# EAGLE library part MC34063ADG (library ON_Semiconductor_By_element14_Batch_1)
Switching Regulators
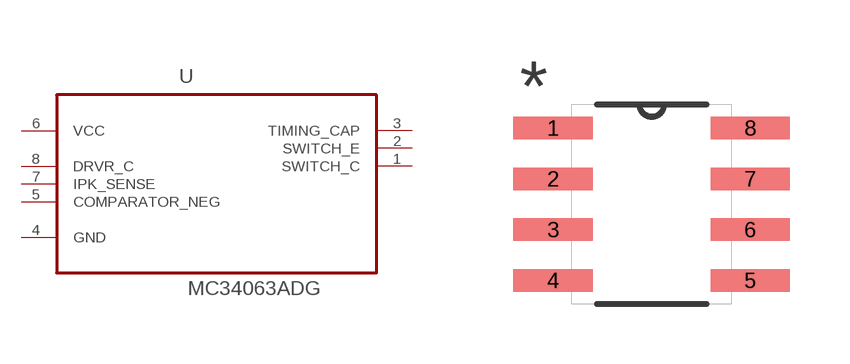
[diagram p389: symbol with the pads of SOIC127P600X175-8N; footprint SOIC127P600X175-8N]

Designator prefix U

## MC34063ADG (MPN: MC34063ADG; OC_FARNELL: 1211119; OC_NEWARK: 45J1208; PACKAGE: SOIC-8; SUPPLIER: ON SEMICONDUCTOR)  [SOIC127P600X175-8N]
1  SWITCH_C  out
2  SWITCH_E  out
3  TIMING_CAP  out
4  GND  pas
5  COMPARATOR_NEG  in
6  VCC  pwr
7  IPK_SENSE  in
8  DRVR_C  in

## Footprint SOIC127P600X175-8N (pad centres in mm)
smd 1.981 x 0.559: 1 -2.464,1.905; 2 -2.464,0.635; 3 -2.464,-0.635; 4 -2.464,-1.905; 5 2.464,-1.905; 6 2.464,-0.635; 7 2.464,0.635; 8 2.464,1.905